# Altium schematic symbol library MP28164GD-Z.SchLib: 1 symbol
Pins are listed as number, name and electrical type; pins without a type are passive.

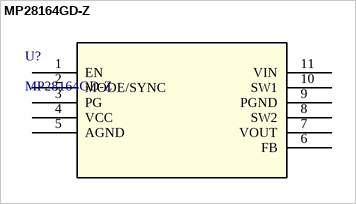
[diagram p0: symbol MP28164GD-Z]

## MP28164GD-Z
designator U?
High-Efficiency Single-Inductor Buck-Boost Converter with 4.2A Switches; Manufacturer_Name: Monolithic Power Systems; Copyright: Copyright (C) 2025 Ultra Librarian. All rights reserved.; Manufacturer_Part_Number: MP28164GD-Z; RefDes: RefDes; Type: Type
footprint QFN-11_MP28164_MNP
pins: 1 EN, 2 MODE/SYNC, 3 PG, 4 VCC (power), 5 AGND (power), 6 FB, 7 VOUT (power), 8 SW2, 9 PGND (power), 10 SW1, 11 VIN (power)